# Altium integrated library 3314J-1-202E.IntLib: 1 symbol
Pins are listed as number, name and electrical type; pins without a type are passive.

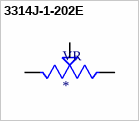
[diagram p0: symbol 3314J-1-202E]

## 3314J-1-202E
designator VR
2 kOhms 0.25W, 1/4W J Lead Surface Mount Trimmer Potentiometer Cermet 1 Turn Top Adjustment; MP: 3314J-1-202E; MF: Bourns; Availability: Unavailable; Price: None; Value: *; SnapEDA_Link: https://www.snapeda.com/parts/3314J-1-202E/Bourns/view-part/378415/?ref=snap; Package: DFN-8 Bourns
footprint TRIM_3314J-1-202E
pins: 1 CCW, 2 WIPER, 3 CW